# EAGLE library part GLOWBOARD_ICSP (library blinkyboard)
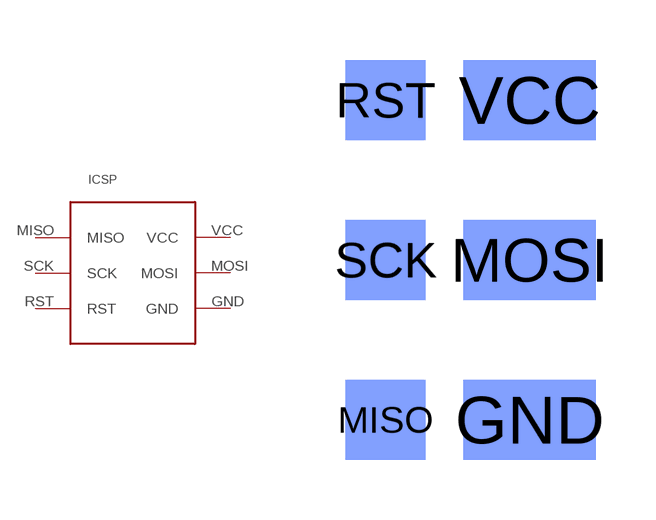
[diagram p1: symbol with the pads of GLOWBOARD_ICSP_PADS; footprint GLOWBOARD_ICSP_PADS]

Designator prefix -

## GLOWBOARD_ICSP  [GLOWBOARD_ICSP_PADS]
GND  GND
MISO  MISO
MOSI  MOSI
RST  RST
SCK  SCK
VCC  VCC

## Footprint GLOWBOARD_ICSP_PADS (pad centres in mm)
smd 3.3 x 2 bottom: GND 2,-4; MOSI 2,0; VCC 2,4
smd 2 x 2 bottom: MISO -1.6,-4; RST -1.6,4; SCK -1.6,0